# EAGLE library part MPPTCHARGER (library CombinerBoardFootprint)
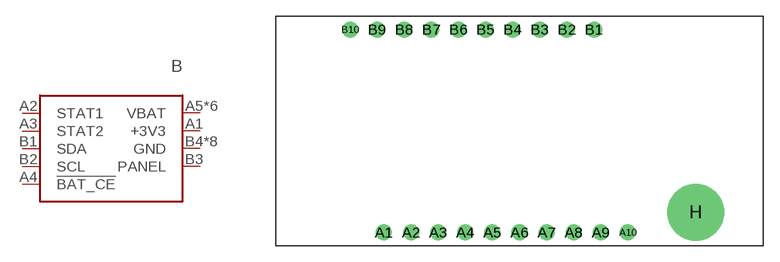
[diagram p0: symbol with the pads of MPPTCHARGER; footprint MPPTCHARGER]

Designator prefix B

## MPPTCHARGER  [MPPTCHARGER]
A1  +3V3
A2  STAT1
A3  STAT2
A4  !BAT_CE!
A5  VBAT
A6  VBAT
A7  VBAT
A8  VBAT
A9  VBAT
A10  VBAT
B1  SDA
B2  SCL
B3  PANEL
B4  GND
B5  GND
B6  GND
B7  GND
B8  GND
B9  GND
B10  GND
H  GND

## Footprint MPPTCHARGER (pad centres in mm)
drill 1: A1 10.16,1.27; A2 12.7,1.27; A3 15.24,1.27; A4 17.78,1.27; A5 20.32,1.27; A6 22.86,1.27; A7 25.4,1.27; A8 27.94,1.27; A9 30.48,1.27; A10 33.02,1.27; B1 29.845,20.32; B2 27.305,20.32; B3 24.765,20.32; B4 22.225,20.32; B5 19.685,20.32; B6 17.145,20.32; B7 14.605,20.32; B8 12.065,20.32; B9 9.525,20.32; B10 6.985,20.32
drill 2.8 pad 5.334: H 39.37,3.175